# EAGLE library part USB-C (library personal)
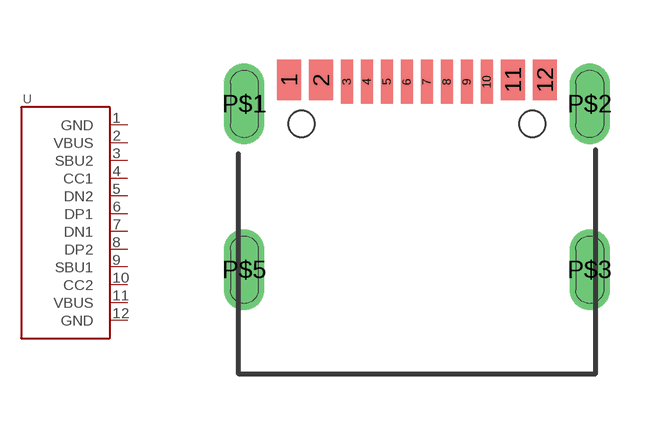
[diagram p2: symbol with the pads of USB-C; footprint USB-C]

Designator prefix -

## USB-C  [USB-C]
1  GND
2  VBUS
3  SBU2
4  CC1
5  DN2
6  DP1
7  DN1
8  DP2
9  SBU1
10  CC2
11  VBUS
12  GND

## Footprint USB-C (pad centres in mm)
smd 0.6 x 1: 1 -3.2,0.05; 2 -2.4,0.05; 11 2.4,0.05; 12 3.2,0.05
smd 0.3 x 1.1: 3 -1.75,0; 4 -1.25,0; 5 -0.75,0; 6 -0.25,0; 7 0.25,0; 8 0.75,0; 9 1.25,0; 10 1.75,0
drill 0.5 long: P$1 -4.32,-0.55; P$2 4.32,-0.55; P$3 4.32,-4.7; P$5 -4.32,-4.7
hole 0.65 at -2.89,-1.05
hole 0.65 at 2.89,-1.05